# Altium schematic symbol library SIM5025.SchLib: 1 symbol
Pins are listed as number, name and electrical type; pins without a type are passive.

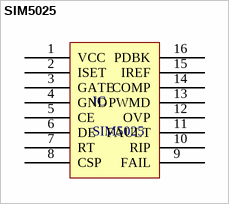
[diagram p0: symbol SIM5025]

## SIM5025
designator IC
footprint SEM5025
pins: 1 VCC, 2 ISET, 3 GATE, 4 GND, 5 CE, 6 DE, 7 RT, 8 CSP, 9 FAIL, 10 RIP, 11 FAULT, 12 OVP, 13 PWMD, 14 COMP, 15 IREF, 16 PDBK